# EAGLE library part 64902029522 (library Wuerth_Elektronik_eiCan_07_Mini_Power_Connectors)
WR-MPC4-4.20mm Male Dual Row Angled Header,20 pins
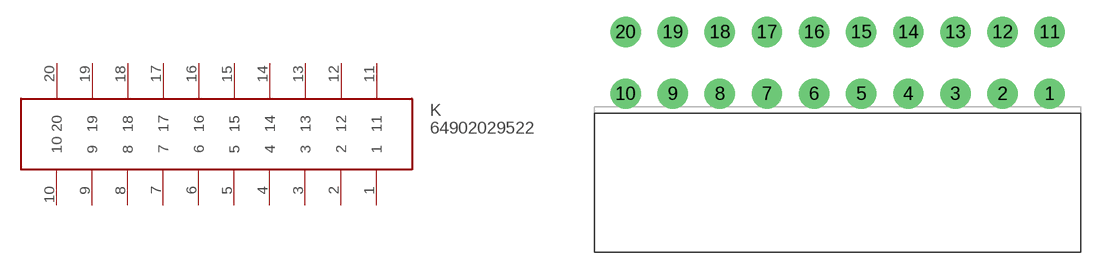
[diagram p7: symbol with the pads of 64902029522; footprint 64902029522]

Designator prefix K

## 64902029522  [64902029522]
1  1
2  2
3  3
4  4
5  5
6  6
7  7
8  8
9  9
10  10
11  11
12  12
13  13
14  14
15  15
16  16
17  17
18  18
19  19
20  20

## Footprint 64902029522 (pad centres in mm)
WR-MPC4-4.20mm Male Dual Row Angled Header,20 pins
drill 1.8 round: 1 15.385,-2.75; 2 11.185,-2.75; 3 6.985,-2.75; 4 2.785,-2.75; 5 -1.415,-2.75; 6 -5.615,-2.75; 7 -9.815,-2.75; 8 -14.015,-2.75; 9 -18.215,-2.75; 10 -22.415,-2.75; 11 15.385,2.75; 12 11.185,2.75; 13 6.985,2.75; 14 2.785,2.75; 15 -1.415,2.75; 16 -5.615,2.75; 17 -9.815,2.75; 18 -14.015,2.75; 19 -18.215,2.75; 20 -22.415,2.75